# Altium schematic symbol library Condensator0.1µF.SchLib: 1 symbol
Pins are listed as number, name and electrical type; pins without a type are passive.

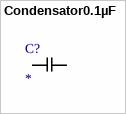
[diagram p0: symbol Condensator0.1µF]

## Condensator0.1µF
designator C?
footprint CAPC1210X70M (Chip Resistor, 2-Leads, Body 3.30x1.70mm, IPC Low Density)
pins: 1 (power), 2 (power)